# Altium footprint library swarm_crawler_pcb.PcbLib: 39 footprints (part 3 of 3)
Each footprint in its own frame and in the unit in brackets; x right, y up, seen from the top. Pads: shape width x height; smd on the part's side, far side on the other; paste and mask are expansions set on the pad; w line width, h text height; cw(c..) or ccw(c..) is an arc to the next point about the centre after c.
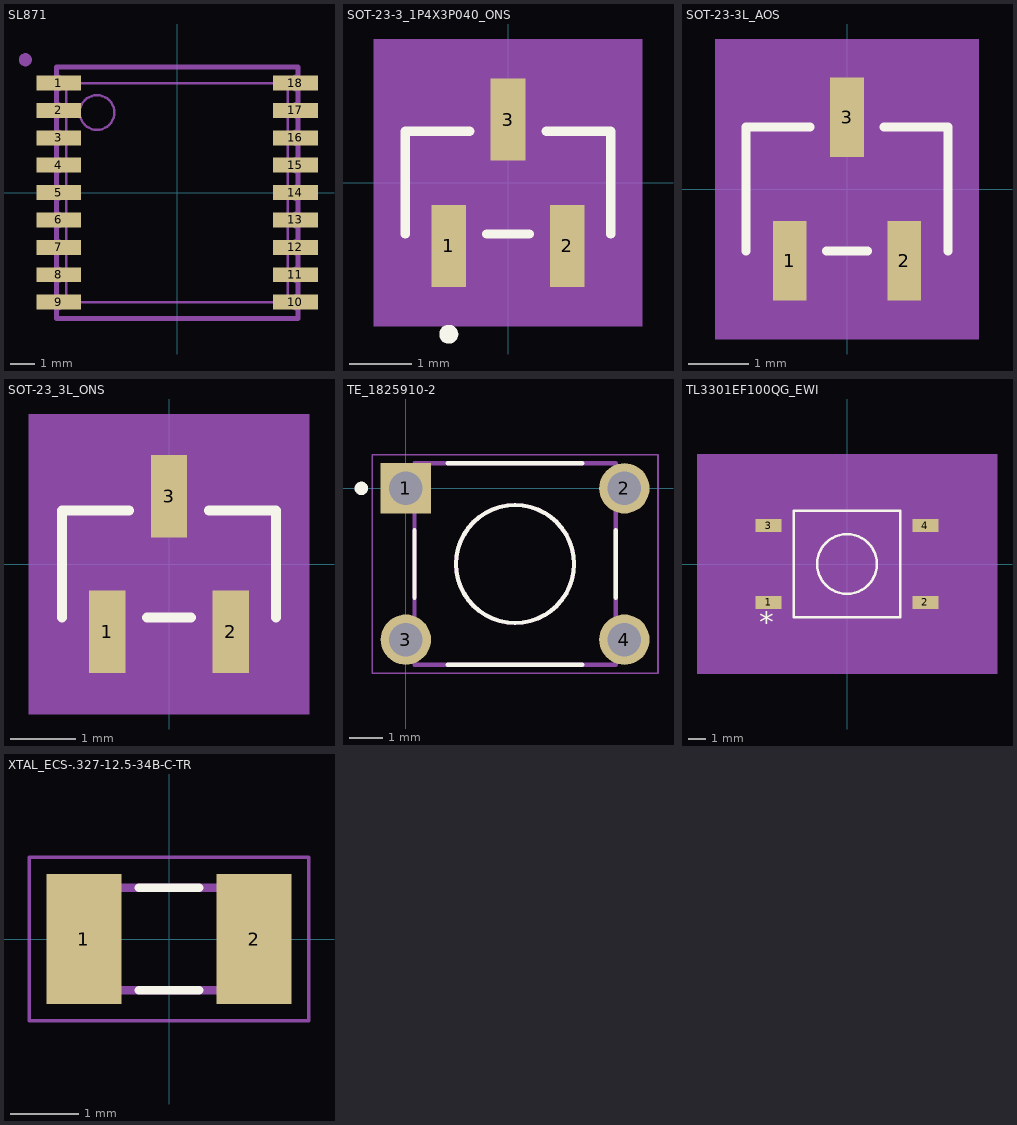
[diagram p2: the footprints below, top view; thin cyan lines are the x and y axes]

## SL871 [mm] "SL871"
height 2.6
pads (18):
  rect 1.8x0.6 smd paste+0 mask-127: 1(-4.75,4.4) 2(-4.75,3.3) 3(-4.75,2.2) 4(-4.75,1.1) 5(-4.75,0) 6(-4.75,-1.1) 7(-4.75,-2.2) 8(-4.75,-3.3) 9(-4.75,-4.4) 10(4.75,-4.4) 11(4.75,-3.3) 12(4.75,-2.2) 13(4.75,-1.1) 14(4.75,0) 15(4.75,1.1) 16(4.75,2.2) 17(4.75,3.3) 18(4.75,4.4)
Top Solder:
  region: 5.7,4.05 5.7,4.75 3.8,4.75 3.8,4.05
  region: 5.7,2.95 5.7,3.65 3.8,3.65 3.8,2.95
  region: 5.7,1.85 5.7,2.55 3.8,2.55 3.8,1.85
  region: 5.7,0.75 5.7,1.45 3.8,1.45 3.8,0.75
  region: 5.7,-0.35 5.7,0.35 3.8,0.35 3.8,-0.35
  region: 5.7,-1.45 5.7,-0.75 3.8,-0.75 3.8,-1.45
  region: 5.7,-2.55 5.7,-1.85 3.8,-1.85 3.8,-2.55
  region: 5.7,-3.65 5.7,-2.95 3.8,-2.95 3.8,-3.65
  region: 5.7,-4.75 5.7,-4.05 3.8,-4.05 3.8,-4.75
  region: -3.8,-4.75 -3.8,-4.05 -5.7,-4.05 -5.7,-4.75
  region: -3.8,-3.65 -3.8,-2.95 -5.7,-2.95 -5.7,-3.65
  region: -3.8,-2.55 -3.8,-1.85 -5.7,-1.85 -5.7,-2.55
  region: -3.8,-1.45 -3.8,-0.75 -5.7,-0.75 -5.7,-1.45
  region: -3.8,-0.35 -3.8,0.35 -5.7,0.35 -5.7,-0.35
  region: -3.8,0.75 -3.8,1.45 -5.7,1.45 -5.7,0.75
  region: -3.8,1.85 -3.8,2.55 -5.7,2.55 -5.7,1.85
  region: -3.8,2.95 -3.8,3.65 -5.7,3.65 -5.7,2.95
  region: -3.8,4.05 -3.8,4.75 -5.7,4.75 -5.7,4.05
Mechanical 1:
  region: -5.842,5.334 -5.842,5.385 -5.881,5.478 -5.952,5.549 -6.045,5.588 -6.096,5.588 -6.147,5.588 -6.24,5.549 -6.311,5.478 -6.35,5.385 -6.35,5.334 -6.35,5.283 -6.311,5.19 -6.24,5.119 -6.147,5.08 -6.096,5.08 -6.045,5.08 -5.952,5.119 -5.881,5.19 -5.842,5.283
  lines w0.1: -4.85,-5.05 -4.85,-4.7 ccw(c-4.85,-4.4) -4.85,-4.1 -4.85,-3.6 ccw(c-4.85,-3.3) -4.85,-3 -4.85,-2.5 ccw(c-4.85,-2.2) -4.85,-1.9 -4.85,-1.4 ccw(c-4.85,-1.1) -4.85,-0.8 -4.85,-0.3 ccw(c-4.85,0) -4.85,0.3 -4.85,0.8 ccw(c-4.85,1.1) -4.85,1.4 -4.85,1.9 ccw(c-4.85,2.2) -4.85,2.5 -4.85,3 ccw(c-4.85,3.3) -4.85,3.6 -4.85,4.1 ccw(c-4.85,4.4) -4.85,4.7 -4.85,5.05 4.85,5.05 4.85,4.7 ccw(c4.85,4.4) 4.85,4.1 4.85,3.6 ccw(c4.85,3.3) 4.85,3 4.85,2.5 ccw(c4.85,2.2) 4.85,1.9 4.85,1.4 ccw(c4.85,1.1) 4.85,0.8 4.85,0.3 ccw(c4.85,0) 4.85,-0.3 4.85,-0.8 ccw(c4.85,-1.1) 4.85,-1.4 4.85,-1.9 ccw(c4.85,-2.2) 4.85,-2.5 4.85,-3 ccw(c4.85,-3.3) 4.85,-3.6 4.85,-4.1 ccw(c4.85,-4.4) 4.85,-4.7 4.85,-5.05 -4.85,-5.05 ; -4.45,-4.4 -4.45,4.4 4.45,4.4 4.45,-4.4 -4.45,-4.4 ; -3.913,3.216 ccw(c-3.216,3.216) -3.216,2.519 ccw(c-3.216,3.216) -2.519,3.216 ccw(c-3.216,3.216) -3.216,3.913 ccw(c-3.216,3.216) -3.913,3.216
  lines w0.2: -4.85,-5.05 4.85,-5.05 4.85,5.05 -4.85,5.05 -4.85,-5.05
  text "'.Designator'" at -7.755,-0.75 h1.5
3D body "sl871.stp": height 2.45, standoff 0, extent -4.85,-5.05 4.85,5.05

## SOT-23-3_1P4X3P040_ONS [mil]
pads (3):
  rect 22x52 smd paste+0 mask+0: 1(-37.5,-40) 2(37.5,-40) 3(0,40)
Top Overlay:
  circle w6: c-37.5,-96 r3
  lines w6: -65,-32.5 -65,32.5 -24.1,32.5 ; -13.4,-32.5 13.4,-32.5 ; 24.1,32.5 65,32.5 65,-32.5
Mechanical 5:
  region: -85,91 85,91 85,-91 -85,-91
Mechanical 13:
  circle w0: c-37.5,-17.5 r3
  lines w1: -60,-27.5 -60,27.5 60,27.5 60,-27.5 -60,-27.5 ; -47.5,-52 -27.5,-52 -27.5,-27.5 -47.5,-27.5 -47.5,-52 ; -10,27.5 -10,52 10,52 10,27.5 -10,27.5 ; 27.5,-52 47.5,-52 47.5,-27.5 27.5,-27.5 27.5,-52
Mechanical 15:
  region: -70,-37.5 -70,37.5 -20,37.5 -20,76 20,76 20,37.5 70,37.5 70,-37.5 57.5,-37.5 57.5,-76 -57.5,-76 -57.5,-37.5
  lines w6: -70,-37.5 -57.5,-37.5 -57.5,-76 57.5,-76 57.5,-37.5 70,-37.5 70,37.5 20,37.5 20,76 -20,76 -20,37.5 -70,37.5 -70,-37.5
3D body "SOT-23-3_1P4X3P040_ONS.step": height 44.09, standoff 0, extent -60,-52.01 60,52.01

## SOT-23-3L_AOS [mil]
pads (3):
  rect 22x52 smd paste+0 mask+0: 1(-37.5,-47) 2(37.5,-47) 3(0,47)
Top Overlay:
  lines w6: -66,-40.5 -66,40.5 -24.1,40.5 ; -13.4,-40.5 13.4,-40.5 ; 24.1,40.5 66,40.5 66,-40.5
Mechanical 5:
  region: -86,98 86,98 86,-98 -86,-98
Mechanical 13:
  lines w1: -61,-35.5 61,-35.5 61,35.5 -61,35.5 -61,-35.5 ; -47.5,-59 -47.5,-35.5 -27.5,-35.5 -27.5,-59 -47.5,-59 ; -10,35.5 10,35.5 10,59 -10,59 -10,35.5 ; 27.5,-59 27.5,-35.5 47.5,-35.5 47.5,-59 27.5,-59
Mechanical 15:
  region: -71,-45.5 -71,45.5 -20,45.5 -20,83 20,83 20,45.5 71,45.5 71,-45.5 57.5,-45.5 57.5,-83 -57.5,-83 -57.5,-45.5
  lines w6: -71,-45.5 -71,45.5 -20,45.5 -20,83 20,83 20,45.5 71,45.5 71,-45.5 57.5,-45.5 57.5,-83 -57.5,-83 -57.5,-45.5 -71,-45.5
3D body "SOT-23-3L_AOS.step": height 49.09, standoff 0, extent -60.98,-59.02 60.98,59.02

## SOT-23_3L_ONS [mil]
pads (3):
  rect 22x50 smd paste+0 mask+0: 1(-37.5,-41) 2(37.5,-41) 3(0,41)
Top Overlay:
  lines w6: -65,-32.5 -65,32.5 -24.1,32.5 ; -13.4,-32.5 13.4,-32.5 ; 24.1,32.5 65,32.5 65,-32.5
Mechanical 5:
  region: -85,91 85,91 85,-91 -85,-91
Mechanical 13:
  lines w1: -60,-27.5 60,-27.5 60,27.5 -60,27.5 -60,-27.5 ; -47.5,-52 -47.5,-27.5 -27.5,-27.5 -27.5,-52 -47.5,-52 ; -10,27.5 10,27.5 10,52 -10,52 -10,27.5 ; 27.5,-52 27.5,-27.5 47.5,-27.5 47.5,-52 27.5,-52
Mechanical 15:
  region: -70,-37.5 -70,37.5 -20,37.5 -20,76 20,76 20,37.5 70,37.5 70,-37.5 57.5,-37.5 57.5,-76 -57.5,-76 -57.5,-37.5
  lines w6: -70,-37.5 -70,37.5 -20,37.5 -20,76 20,76 20,37.5 70,37.5 70,-37.5 57.5,-37.5 57.5,-76 -57.5,-76 -57.5,-37.5 -70,-37.5
3D body "SOT-23_3L_ONS.step": height 44.09, standoff 0, extent -60,-52.01 60,52.01

## TE_1825910-2 [mm]
pads (4):
  rect 1.498x1.498 / inner round 1.498 / far side rect 1.498x1.498 hole 0.99: 1(0,0)
  round 1.498 hole 0.99: 2(6.5,0) 3(0,-4.5) 4(6.5,-4.5)
Top Overlay:
  circle w0.127: c3.25,-2.25 r1.755
  circle w0.2: c-1.322,0 r0.1
  lines w0.127: 0.255,-3.25 0.255,-1.25 ; 1.25,-5.245 5.25,-5.245 ; 1.25,0.745 5.25,0.745 ; 6.245,-3.25 6.245,-1.25
Mechanical 13:
  circle w0.127: c3.25,-2.25 r1.755
  lines w0.127: 0.255,-5.245 0.255,0.745 6.245,0.745 6.245,-5.245 0.255,-5.245
Mechanical 15:
  lines w0.05: -1,-5.5 -1,1 7.5,1 7.5,-5.5 -1,-5.5

## TL3301EF100QG_EWI [mil]
pads (4):
  rect 60x30 smd paste+0 mask+0: 1(-181,-88.5) 2(181,-88.5) 3(-181,88.5) 4(181,88.5)
Top Overlay:
  circle w6: c0,0 r69
  lines w6: -123,-123 123,-123 123,123 -123,123 -123,-123
  text "*" at -202.5,-160 h50
Mechanical 5:
  region: 346,-253 -346,-253 -346,253 346,253
Mechanical 13:
  circle w0: c0,0 r69
  lines w1: -118,-85.5 -118,-57.5 ; -118,74.5 -197,74.5 -197,102.5 -118,102.5 ; -197,-102.5 -197,-74.5 -118,-74.5 -118,-102.5 -197,-102.5 ; -118,-118 118,-118 118,118 -118,118 -118,-118 ; 118,-102.5 118,-74.5 197,-74.5 197,-102.5 118,-102.5 ; 118,74.5 118,102.5 197,102.5 197,74.5 118,74.5
  text "*" at -115.5,-106.5 h50
Mechanical 15:
  region: 128,-128 -128,-128 -128,-123.5 -217,-123.5 -217,123.5 -128,123.5 -128,128 128,128 128,123.5 217,123.5 217,-123.5 128,-123.5
  lines w6: -217,-123.5 -128,-123.5 -128,-128 128,-128 128,-123.5 217,-123.5 217,123.5 128,123.5 128,128 -128,128 -128,123.5 -217,123.5 -217,-123.5
3D body: height 10, standoff 0, extent 0,0 10,10

## XTAL_ECS-.327-12.5-34B-C-TR [mm]
pads (2):
  rect 1.1x1.9 smd: 1(-1.25,0) 2(1.25,0)
Top Overlay:
  lines w0.127: -0.44,-0.75 0.44,-0.75 ; -0.44,0.75 0.44,0.75
Mechanical 13:
  lines w0.127: -1.6,-0.75 -1.6,0.75 1.6,0.75 1.6,-0.75 -1.6,-0.75
Mechanical 15:
  lines w0.05: -2.05,-1.2 2.05,-1.2 2.05,1.2 -2.05,1.2 -2.05,-1.2